# EAGLE library part ATARI-ANTIC (library TF_Atari)
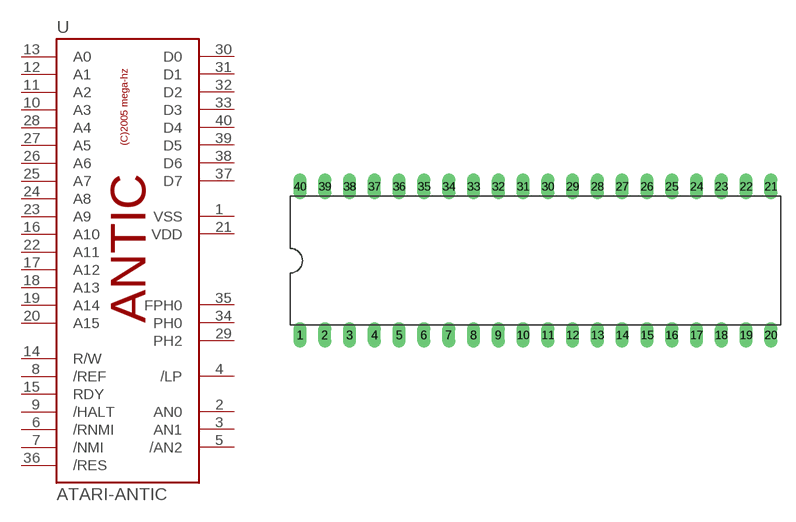
[diagram p1: symbol with the pads of DIL40; footprint DIL40]

Designator prefix -

## ATARI-ANTIC  [DIL40]
1  VSS  sup
2  AN0
3  AN1
4  /LP
5  /AN2
6  /RNMI
7  /NMI
8  /REF
9  /HALT
10  A3
11  A2
12  A1
13  A0
14  R/W
15  RDY
16  A10
17  A12
18  A13
19  A14
20  A15
21  VDD  pwr
22  A11
23  A9
24  A8
25  A7
26  A6
27  A5
28  A4
29  PH2
30  D0
31  D1
32  D2
33  D3
34  PH0
35  FPH0
36  /RES
37  D7
38  D6
39  D5
40  D4

## Footprint DIL40 (pad centres in mm)
drill 0.813 long: 1 -24.13,-7.62; 2 -21.59,-7.62; 3 -19.05,-7.62; 4 -16.51,-7.62; 5 -13.97,-7.62; 6 -11.43,-7.62; 7 -8.89,-7.62; 8 -6.35,-7.62; 9 -3.81,-7.62; 10 -1.27,-7.62; 11 1.27,-7.62; 12 3.81,-7.62; 13 6.35,-7.62; 14 8.89,-7.62; 15 11.43,-7.62; 16 13.97,-7.62; 17 16.51,-7.62; 18 19.05,-7.62; 19 21.59,-7.62; 20 24.13,-7.62; 21 24.13,7.62; 22 21.59,7.62; 23 19.05,7.62; 24 16.51,7.62; 25 13.97,7.62; 26 11.43,7.62; 27 8.89,7.62; 28 6.35,7.62; 29 3.81,7.62; 30 1.27,7.62; 31 -1.27,7.62; 32 -3.81,7.62; 33 -6.35,7.62; 34 -8.89,7.62; 35 -11.43,7.62; 36 -13.97,7.62; 37 -16.51,7.62; 38 -19.05,7.62; 39 -21.59,7.62; 40 -24.13,7.62